# Altium schematic symbol library 691 308 330 0xx.SchLib: 9 symbols
Pins are listed as number, name and electrical type; pins without a type are passive.

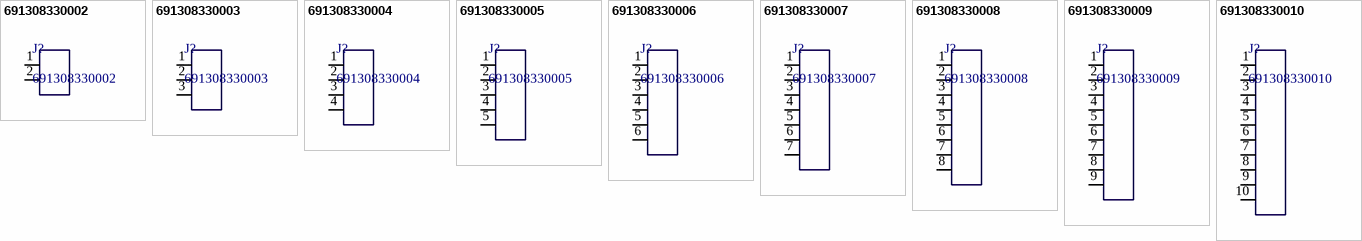
[diagram p0: symbols 691308330002 to 691308330010]

## 691308330002
designator J?
WR-TBL Terminal Blocks - Serie 3083; Manufacturer: Wurth Elektronik; ComponentLink1 Description: Manufacturer; ComponentLink2 Description: Datasheet; ComponentLink1URL: http://www.we-online.de; ComponentLink2URL: http://katalog.we-online.de/em/datasheet/6913083300xx.pdf; Created by: Baojun Chen; Created Date: 7.Sep.2015; partNo: 691308330002
footprint 691308330002 (Serie 3083 - 3.81 mm _ 2 pins)
pins: 1, 2

## 691308330003
designator J?
WR-TBL Terminal Blocks - Serie 3083; Manufacturer: Wurth Elektronik; ComponentLink1 Description: Manufacturer; ComponentLink2 Description: Datasheet; ComponentLink1URL: http://www.we-online.de; ComponentLink2URL: http://katalog.we-online.de/em/datasheet/6913083300xx.pdf; Created by: Baojun Chen; Created Date: 7.Sep.2015; partNo: 691308330003
footprint 691308330003 (Serie 3083 - 3.81 mm _ 3 pins)
pins: 1, 2, 3

## 691308330004
designator J?
WR-TBL Terminal Blocks - Serie 3083; Manufacturer: Wurth Elektronik; ComponentLink1 Description: Manufacturer; ComponentLink2 Description: Datasheet; ComponentLink1URL: http://www.we-online.de; ComponentLink2URL: http://katalog.we-online.de/em/datasheet/6913083300xx.pdf; Created by: Baojun Chen; Created Date: 7.Sep.2015; partNo: 691308330004
footprint 691308330004 (Serie 3083 - 3.81 mm _ 4 pins)
pins: 1, 2, 3, 4

## 691308330005
designator J?
WR-TBL Terminal Blocks - Serie 3083; Manufacturer: Wurth Elektronik; ComponentLink1 Description: Manufacturer; ComponentLink2 Description: Datasheet; ComponentLink1URL: http://www.we-online.de; ComponentLink2URL: http://katalog.we-online.de/em/datasheet/6913083300xx.pdf; Created by: Baojun Chen; Created Date: 7.Sep.2015; partNo: 691308330005
footprint 691308330005 (Serie 3083 - 3.81 mm _ 5 pins)
pins: 1, 2, 3, 4, 5

## 691308330006
designator J?
WR-TBL Terminal Blocks - Serie 3083; Manufacturer: Wurth Elektronik; ComponentLink1 Description: Manufacturer; ComponentLink2 Description: Datasheet; ComponentLink1URL: http://www.we-online.de; ComponentLink2URL: http://katalog.we-online.de/em/datasheet/6913083300xx.pdf; Created by: Baojun Chen; Created Date: 7.Sep.2015; partNo: 691308330006
footprint 691308330006 (Serie 3083 - 3.81 mm _ 6 pins)
pins: 1, 2, 3, 4, 5, 6

## 691308330007
designator J?
WR-TBL Terminal Blocks - Serie 3083; Manufacturer: Wurth Elektronik; ComponentLink1 Description: Manufacturer; ComponentLink2 Description: Datasheet; ComponentLink1URL: http://www.we-online.de; ComponentLink2URL: http://katalog.we-online.de/em/datasheet/6913083300xx.pdf; Created by: Baojun Chen; Created Date: 7.Sep.2015; partNo: 691308330007
footprint 691308330007 (Serie 3083 - 3.81 mm _ 7 pins)
pins: 1, 2, 3, 4, 5, 6, 7

## 691308330008
designator J?
WR-TBL Terminal Blocks - Serie 3083; Manufacturer: Wurth Elektronik; ComponentLink1 Description: Manufacturer; ComponentLink2 Description: Datasheet; ComponentLink1URL: http://www.we-online.de; ComponentLink2URL: http://katalog.we-online.de/em/datasheet/6913083300xx.pdf; Created by: Baojun Chen; Created Date: 7.Sep.2015; partNo: 691308330008
footprint 691308330008 (Serie 3083 - 3.81 mm _ 8 pins)
pins: 1, 2, 3, 4, 5, 6, 7, 8

## 691308330009
designator J?
WR-TBL Terminal Blocks - Serie 3083; Manufacturer: Wurth Elektronik; ComponentLink1 Description: Manufacturer; ComponentLink2 Description: Datasheet; ComponentLink1URL: http://www.we-online.de; ComponentLink2URL: http://katalog.we-online.de/em/datasheet/6913083300xx.pdf; Created by: Baojun Chen; Created Date: 7.Sep.2015; partNo: 691308330009
footprint 691308330009 (Serie 3083 - 3.81 mm _ 9 pins)
pins: 1, 2, 3, 4, 5, 6, 7, 8, 9

## 691308330010
designator J?
WR-TBL Terminal Blocks - Serie 3083; Manufacturer: Wurth Elektronik; ComponentLink1 Description: Manufacturer; ComponentLink2 Description: Datasheet; ComponentLink1URL: http://www.we-online.de; ComponentLink2URL: http://katalog.we-online.de/em/datasheet/6913083300xx.pdf; Created by: Baojun Chen; Created Date: 7.Sep.2015; partNo: 691308330010
footprint 691308330010 (Serie 3083 - 3.81 mm _ 10 pins)
pins: 1, 2, 3, 4, 5, 6, 7, 8, 9, 10